# Altium footprint library PcbLib.PcbLib: 20 footprints (part 1 of 2)
Each footprint in its own frame and in the unit in brackets; x right, y up, seen from the top. Pads: shape width x height; smd on the part's side, far side on the other; paste and mask are expansions set on the pad; w line width, h text height; cw(c..) or ccw(c..) is an arc to the next point about the centre after c.
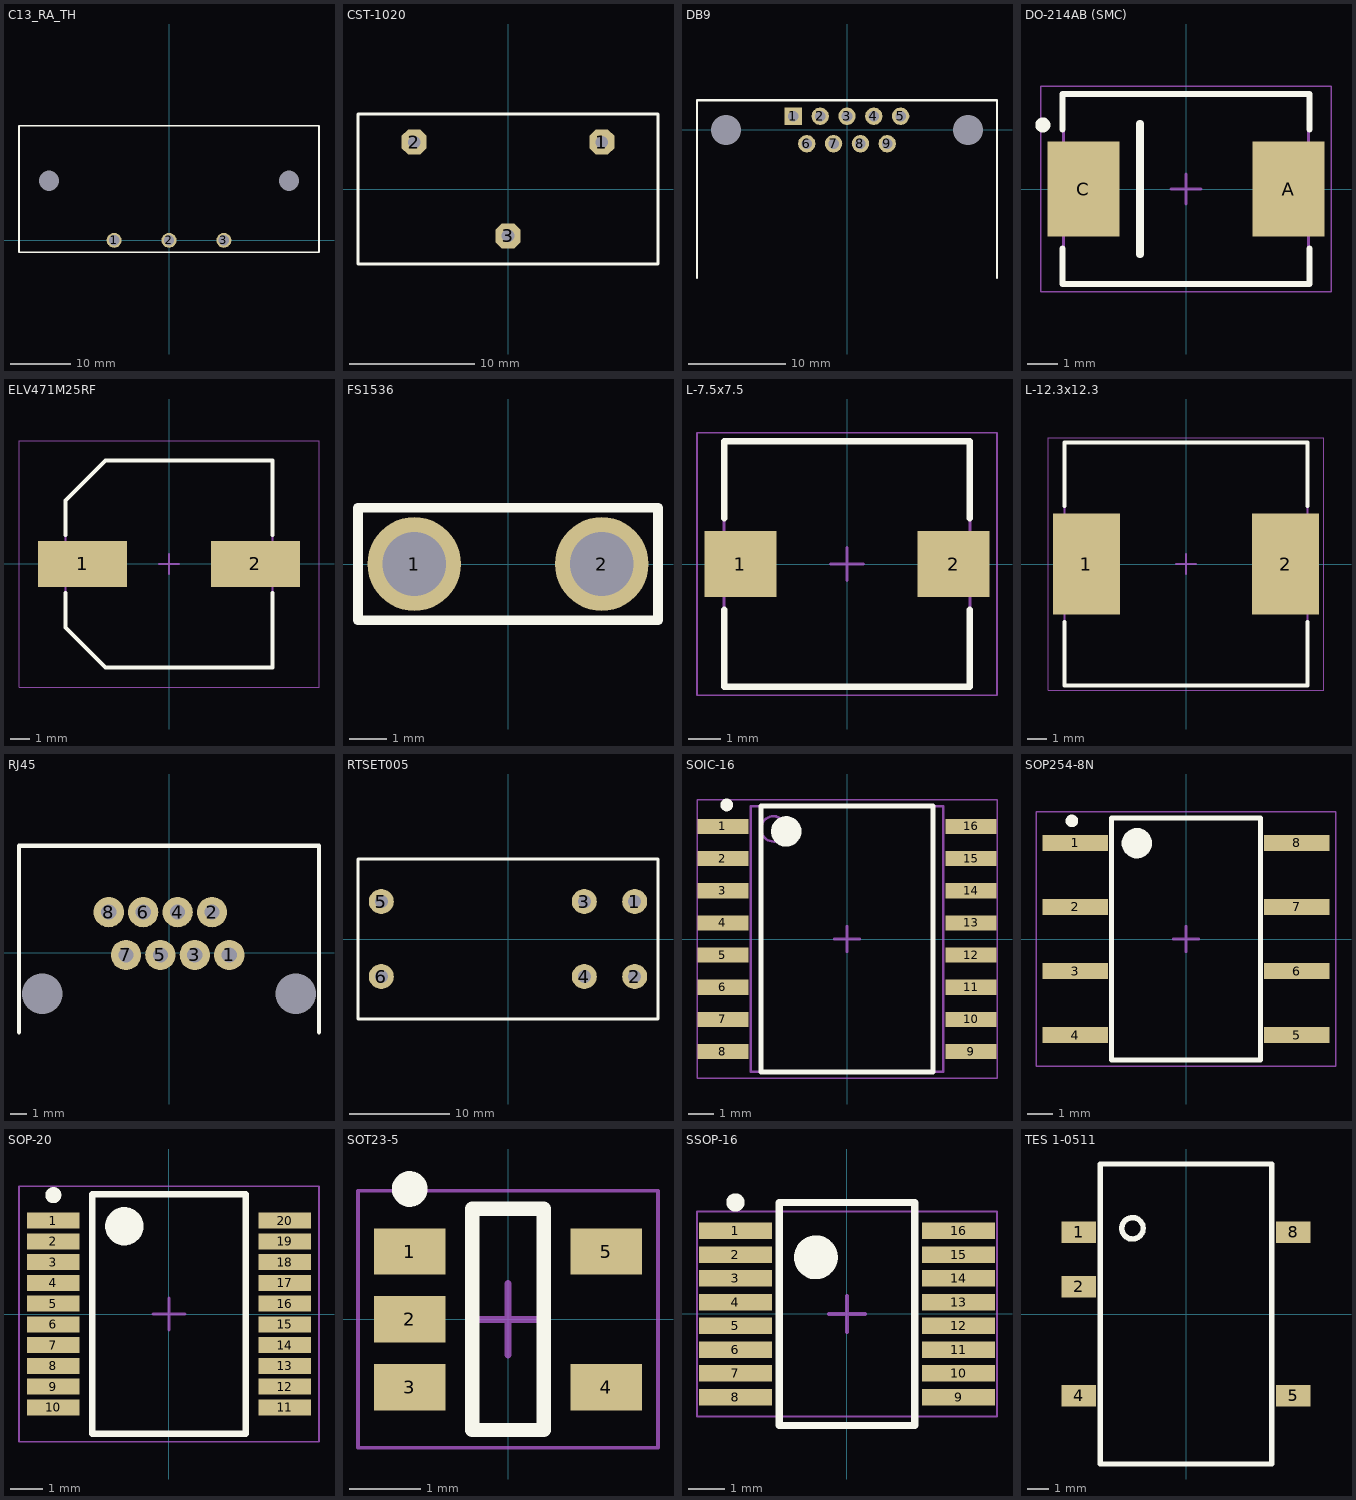
[diagram p0: the footprints below, top view; thin cyan lines are the x and y axes]

## C13_RA_TH [mm]
pads (5):
  round 0 hole 3.4: 0(-20,9.9) 0(20,9.9)
  round 2.5 hole 1.7: 1(-9.14,0) 2(0,0) 3(9.14,0)
Top Overlay:
  lines w0.254: -25,-2 -25,19.1 25,19.1 25,-2 -25,-2
3D body "px0580-pc.stp": height 27.76, standoff -3.67, extent -24.88,-1.8 24.88,21.8

## CST-1020 [mm]
pads (3):
  oct 2x2 hole 1: 1(7.5,3.75) 2(-7.5,3.75) 3(0,-3.75)
Top Overlay:
  lines w0.254: -12,-6 -12,6 12,6 12,-6 -12,-6
3D body "Triad Magnetics-CST-1020.step": height 25.41, standoff -4.4, extent -11.751,-6 11.75,6.001

## DB9 [mm]
pads (11):
  round 0 hole 3.1: 0(-12.5,0) 0(12.5,0)
  rect 1.8x1.8 hole 1.1: 1(-5.54,1.42)
  round 1.8 hole 1.1: 2(-2.77,1.42) 3(0,1.42) 4(2.77,1.42) 5(5.54,1.42) 6(-4.155,-1.42) 7(-1.385,-1.42) 8(1.385,-1.42) 9(4.155,-1.42)
Top Overlay:
  lines w0.254: -15.494,-15.24 -15.494,3.048 15.494,3.048 15.494,-15.24
3D body "User Library-DB9-Usa.step": height 13.28, standoff -3.6, extent -15.405,-15.325 15.405,2.975

## DO-214AB (SMC) [mm] "Molded Diode, 2-Leads, Body 7.94x5.90mm, IPC Medium Density"
height 2.62
pads (2):
  rect 2.4x3.15 smd: A(3.4,0) C(-3.4,0)
Top Overlay:
  circle w0.25: c-4.75,2.125 r0.125
  lines w0.2: -4.1,-1.975 -4.1,-3.15 4.1,-3.15 4.1,-1.975 ; -4.1,1.975 -4.1,3.15 4.1,3.15 4.1,1.975
  lines w0.254: -1.524,-2.159 -1.524,2.159
Mechanical 13:
  lines w0.1: -4.065,-3.11 4.065,-3.11 4.065,3.11 -4.065,3.11 -4.065,-3.11
Mechanical 15:
  lines w0.05: -4.825,-3.4 4.825,-3.4 4.825,3.4 -4.825,3.4 -4.825,-3.4
  lines w0.1: -0.5,0 0.5,0 ; 0,-0.5 0,0.5
3D body "DO-214AB.step": height 2.4, standoff 0.03, extent -4.065,-3.05 4.065,3.05

## ELV471M25RF [mm] "Aluminum Electrolytic Capacitor, Body 10.30x10.30x10.50mm, IPC Low Density"
height 10.5
pads (2):
  rect 4.5x2.35 smd: 1(-4.375,0) 2(4.375,0)
Top Overlay:
  lines w0.2: -5.25,-1.475 -5.25,-3.213 -3.213,-5.25 5.25,-5.25 5.25,-1.475 ; -5.25,1.475 -5.25,3.212 -3.213,5.25 5.25,5.25 5.25,1.475
Mechanical 13:
  lines w0.1: -5.25,-3.213 -3.213,-5.25 5.25,-5.25 5.25,5.25 -3.213,5.25 -5.25,3.212 -5.25,-3.213
Mechanical 15:
  lines w0.05: -7.6,-6.25 -7.6,6.25 7.6,6.25 7.6,-6.25 -7.6,-6.25
  lines w0.1: -0.5,0 0.5,0 ; 0,-0.5 0,0.5
3D body "User Library-CC1010.step": height 10.41, standoff 0, extent -5.5,-5.2 5.5,5.2

## FS1536 [mm]
pads (2):
  round 2.5 hole 1.7: 1(-2.5,0) 2(2.5,0)
Top Overlay:
  lines w0.254: -4,-1.5 4,-1.5 4,1.5 -4,1.5 -4,-1.5

## L-7.5x7.5 [mm]
pads (2):
  rect 2.2x2 smd: 1(-3.25,0) 2(3.25,0)
Top Overlay:
  lines w0.2: -3.75,-1.4 -3.75,-3.75 3.75,-3.75 3.75,-1.4 ; -3.75,1.4 -3.75,3.75 3.75,3.75 3.75,1.4
Mechanical 13:
  lines w0.1: -3.75,-3.75 -3.75,3.75 3.75,3.75 3.75,-3.75 -3.75,-3.75
Mechanical 15:
  lines w0.05: -4.575,-4 -4.575,4 4.575,4 4.575,-4 -4.575,-4
  lines w0.1: -0.5,0 0.5,0 ; 0,-0.5 0,0.5
3D body "L-7x7.step": height 4.5, standoff 0, extent -3.65,-3.611 3.65,3.689

## L-12.3x12.3 [mm] "Precision Wire Wound Inductor, 2-Leads, Body 12.00x12.00mm, IPC Medium Density"
height 8
pads (2):
  rect 3.4x5.1 smd: 1(-5.05,0) 2(5.05,0)
Top Overlay:
  lines w0.2: -6.15,-2.95 -6.15,-6.15 6.15,-6.15 6.15,-2.95 ; -6.15,2.95 -6.15,6.15 6.15,6.15 6.15,2.95
Mechanical 13:
  lines w0.1: -6.15,-6.15 -6.15,6.15 6.15,6.15 6.15,-6.15 -6.15,-6.15
Mechanical 15:
  lines w0.05: -6.975,-6.4 -6.975,6.4 6.975,6.4 6.975,-6.4 -6.975,-6.4
  lines w0.1: -0.5,0 0.5,0 ; 0,-0.5 0,0.5
3D body "L-12x12.step": height 8, standoff 0, extent -6,-6 6,6

## RJ45 [mm]
pads (10):
  round 0 hole 2.4: 0(-7.5,-2.42) 0(7.5,-2.42)
  round 1.8 hole 0.9: 1(3.57,-0.12) 2(2.55,2.42) 3(1.53,-0.12) 4(0.51,2.42) 5(-0.51,-0.12) 6(-1.53,2.42) 7(-2.55,-0.12) 8(-3.57,2.42)
Top Overlay:
  lines w0.254: -8.89,-4.699 -8.89,6.35 8.89,6.35 8.89,-4.699
3D body "User Library-rj45.step": height 13.37, standoff -3.17, extent -7.866,-15.128 8.12,5.92

## RTSET005 [mm]
pads (6):
  round 2.5 hole 1.3: 1(12.67,3.75) 2(12.67,-3.75) 3(7.63,3.75) 4(7.63,-3.75) 5(-12.67,3.75) 6(-12.67,-3.75)
Top Overlay:
  lines w0.254: -15,-8 -15,8 15,8 15,-8 -15,-8

## SOIC-16 [mm]
pads (16):
  rect 2x0.6 smd: 1(-4.9,4.445) 2(-4.9,3.175) 3(-4.9,1.905) 4(-4.9,0.635) 5(-4.9,-0.635) 6(-4.9,-1.905) 7(-4.9,-3.175) 8(-4.9,-4.445) 9(4.9,-4.445) 10(4.9,-3.175) 11(4.9,-1.905) 12(4.9,-0.635) 13(4.9,0.635) 14(4.9,1.905) 15(4.9,3.175) 16(4.9,4.445)
Top Overlay:
  circle w0.25: c-4.75,5.295 r0.125
  circle w0.6: c-2.4,4.25 r0.3
  lines w0.2: -3.4,-5.25 -3.4,5.25 3.4,5.25 3.4,-5.25 -3.4,-5.25
Mechanical 13:
  circle w0.1: c-2.9,4.35 r0.5
  lines w0.1: -3.8,-5.25 -3.8,5.25 3.8,5.25 3.8,-5.25 -3.8,-5.25
Mechanical 15:
  lines w0.05: -5.925,-5.5 -5.925,5.5 5.925,5.5 5.925,-5.5 -5.925,-5.5
  lines w0.1: -0.5,0 0.5,0 ; 0,-0.5 0,0.5
3D body "User Library-SOIC16_Wide_JEDEC_MS-013AA.step": height 2.72, standoff 0.07, extent -5.315,-5.25 5.315,5.25
3D body: height 0.25, standoff 0, extent -6.5,3.25 -6.5,3.25

## SOP254-8N [mm] "SOP, 8-Leads, Body 9.29x6.62mm, Pitch 2.54mm, IPC Medium Density"
height 4.85
pads (8):
  rect 2.6x0.65 smd: 1(-4.4,3.81) 2(-4.4,1.27) 3(-4.4,-1.27) 4(-4.4,-3.81) 5(4.4,-3.81) 6(4.4,-1.27) 7(4.4,1.27) 8(4.4,3.81)
Top Overlay:
  circle w0.25: c-4.525,4.685 r0.125
  circle w0.6: c-1.95,3.8 r0.3
  lines w0.2: -2.95,-4.8 -2.95,4.8 2.95,4.8 2.95,-4.8 -2.95,-4.8
Mechanical 15:
  lines w0.05: -5.95,-5.05 -5.95,5.05 5.95,5.05 5.95,-5.05 -5.95,-5.05
  lines w0.1: -0.5,0 0.5,0 ; 0,-0.5 0,0.5
3D body "User Library-sop8-2_54.step": height 2.05, standoff 0, extent -3.4,-4.7 3.4,4.7

## SOP-20 [mm] "SOP, 20-Leads, Body 7.20x5.30mm, Pitch 0.65mm, IPC Medium Density"
height 2
pads (20):
  rect 1.65x0.5 smd: 1(-3.625,2.925) 2(-3.625,2.275) 3(-3.625,1.625) 4(-3.625,0.975) 5(-3.625,0.325) 6(-3.625,-0.325) 7(-3.625,-0.975) 8(-3.625,-1.625) 9(-3.625,-2.275) 10(-3.625,-2.925) 11(3.625,-2.925) 12(3.625,-2.275) 13(3.625,-1.625) 14(3.625,-0.975) 15(3.625,-0.325) 16(3.625,0.325) 17(3.625,0.975) 18(3.625,1.625) 19(3.625,2.275) 20(3.625,2.925)
Top Overlay:
  circle w0.25: c-3.625,3.725 r0.125
  circle w0.6: c-1.4,2.75 r0.3
  lines w0.2: -2.4,-3.75 -2.4,3.75 2.4,3.75 2.4,-3.75 -2.4,-3.75
Mechanical 15:
  lines w0.05: -4.7,-4 -4.7,4 4.7,4 4.7,-4 -4.7,-4
  lines w0.1: -0.5,0 0.5,0 ; 0,-0.5 0,0.5
3D body "User Library-SSOP 20 PIN-1.step": height 2.03, standoff 0.04, extent -3.95,-3.665 3.95,3.665

## SOT23-5 [mm]
height 1.45
pads (5):
  rect 1x0.65 smd: 1(-1.375,0.95) 2(-1.375,0) 3(-1.375,-0.95) 4(1.375,-0.95) 5(1.375,0.95)
Top Overlay:
  circle w0.25: c-1.375,1.825 r0.125
  lines w0.2: -0.5,-1.55 0.5,-1.55 0.5,1.55 -0.5,1.55 -0.5,-1.55
Mechanical 15:
  lines w0.05: -2.1,-1.8 -2.1,1.8 2.1,1.8 2.1,-1.8 -2.1,-1.8
  lines w0.1: -0.5,0 0.5,0 ; 0,-0.5 0,0.5
3D body "CircuitWorks-SOT-23-5.step": height 1.15, standoff 0.05, extent -1.25,-1.5 1.25,1.5

## SSOP-16 [mm]
height 1.2
pads (16):
  rect 2x0.45 smd: 1(-3.05,2.275) 2(-3.05,1.625) 3(-3.05,0.975) 4(-3.05,0.325) 5(-3.05,-0.325) 6(-3.05,-0.975) 7(-3.05,-1.625) 8(-3.05,-2.275) 9(3.05,-2.275) 10(3.05,-1.625) 11(3.05,-0.975) 12(3.05,-0.325) 13(3.05,0.325) 14(3.05,0.975) 15(3.05,1.625) 16(3.05,2.275)
Top Overlay:
  circle w0.25: c-3.05,3.05 r0.125
  circle w0.6: c-0.85,1.55 r0.3
  lines w0.2: -1.85,-3.048 -1.85,3.048 1.85,3.048 1.85,-3.048 -1.85,-3.048
Mechanical 15:
  lines w0.05: -4.1,-2.8 -4.1,2.8 4.1,2.8 4.1,-2.8 -4.1,-2.8
  lines w0.1: -0.5,0 0.5,0 ; 0,-0.5 0,0.5
3D body "User Library-SSOP-16.STEP": height 1.9, standoff 0, extent -3.9,-3.1 3.9,3.1

## TES 1-0511 [mm]
pads (5):
  rect 1.6x1 smd: 1(-5,3.81) 2(-5,1.27) 4(-5,-3.81) 5(5,-3.81) 8(5,3.81)
Top Overlay:
  circle w0.254: c-2.5,4 r0.5
  lines w0.254: -4,-7 4,-7 4,7 -4,7 -4,-7